# Altium footprint library Peak.PcbLib: 18 footprints (part 1 of 2)
Each footprint in its own frame and in the unit in brackets; x right, y up, seen from the top. Pads: shape width x height; smd on the part's side, far side on the other; paste and mask are expansions set on the pad; w line width, h text height; cw(c..) or ccw(c..) is an arc to the next point about the centre after c.
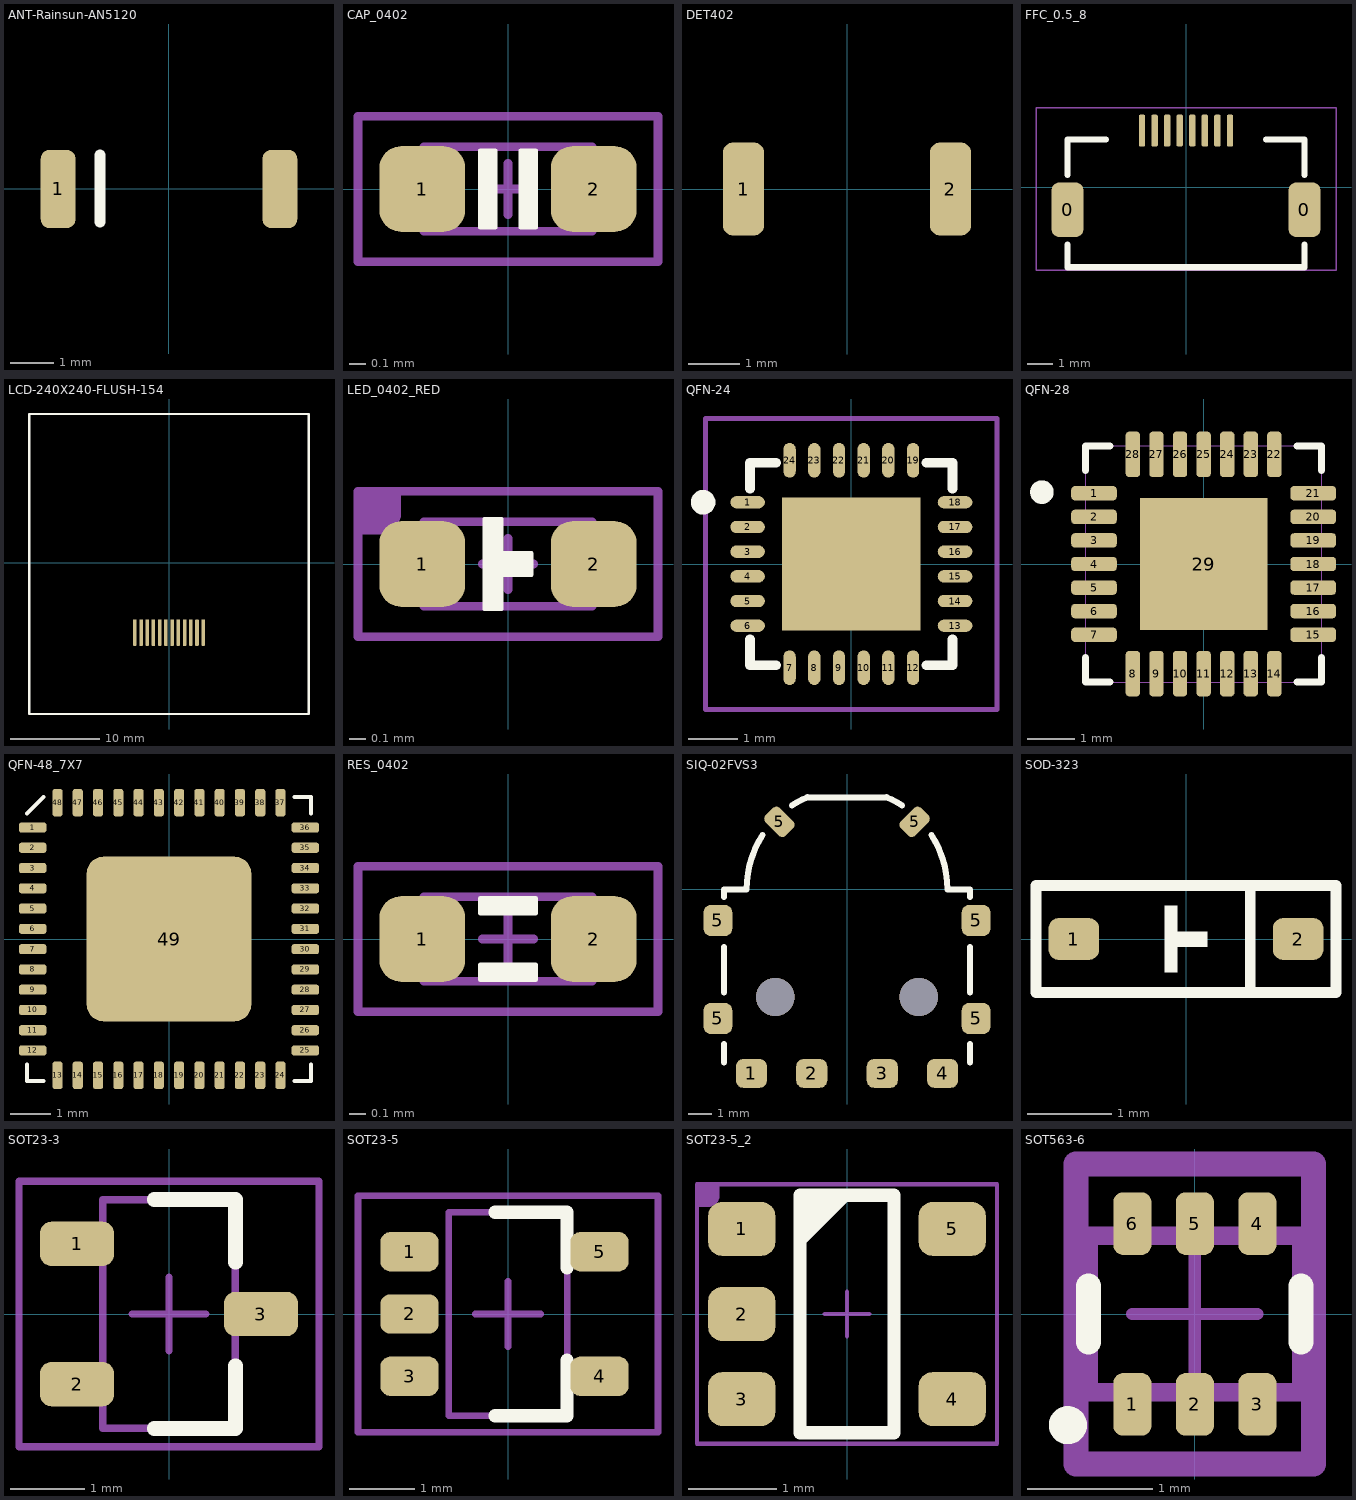
[diagram p0: the footprints below, top view; thin cyan lines are the x and y axes]

## ANT-Rainsun-AN5120 [mm] "选择焊盘"
height 4.3
pads (2):
  rrect50% 0.8x1.8 smd: 1(-2.54,0) ""(2.563,0)
Top Overlay:
  lines w0.254: -1.575,-0.762 -1.575,0.787
3D body "123.stp": height 1.32, standoff -0.01, extent -2.573,-0.911 2.542,0.935

## CAP_0402 [mil]
height 21.65
pads (2):
  rrect50% 20x20 smd: 1(-20,0) 2(20,0)
Top Overlay:
  region: 6.5,-9 3,-9 3,9 6.5,9
  region: -6.5,9 -3,9 -3,-9 -6.5,-9
  lines w1: -6.5,-9 -6.5,9 -3,9 -3,-9 -6.5,-9 ; 3,-9 6.5,-9 6.5,9 3,9 3,-9
Mechanical 13:
  lines w2: -6,0 6,0 ; 0,-6 0,6 ; -19.69,-9.84 19.68,-9.84 19.68,9.84 -19.69,9.84 -19.69,-9.84
Mechanical 14:
  lines w2: -35,-17 35,-17 35,17 -35,17 -35,-17
3D body "CAPC1005X05L.step": height 19.68, standoff 0, extent -19.68,-9.84 19.69,9.85

## DET402 [mm]
height 4.3
pads (2):
  rrect50% 0.8x1.8 smd: 1(-2,0) 2(2,0)
3D body "User Library-DET402.STEP": height 2.03, standoff -0.02, extent -2.451,-1.5 2.44,1.5

## FFC_0.5_8 [mil]
height 78.74
pads (10):
  rrect50% 50x86 smd: 0(-185.63,-35) 0(185.63,-35)
  rrect50% 10x50 smd: 1(-68.9,89) 2(-49.21,89) 3(-29.53,89) 4(-9.84,89) 5(9.84,89) 6(29.53,89) 7(49.21,89) 8(68.9,89)
Top Overlay:
  lines w10: -185.63,-125 -185.63,-90 ; -185.63,20 -185.63,75 -125.63,75 ; -185,-125 185,-125 ; 125.63,75 185.63,75 185.63,20 ; 185.63,-125 185.63,-90
Mechanical 14:
  lines w2: -235,-130 235,-130 235,125 -235,125 -235,-130
3D body "fpc.step": height 81.71, standoff -1.16, extent -187.01,-123.5 187.01,86.57

## LCD-240X240-FLUSH-154 [mm]
height 0.8
pads (12):
  rrect50% 0.4x3 smd: 1(3.851,-7.85) 2(3.151,-7.85) 3(2.451,-7.85) 4(1.751,-7.85) 5(1.051,-7.85) 6(0.351,-7.85) 7(-0.349,-7.85) 8(-1.049,-7.85) 9(-1.749,-7.85) 10(-2.449,-7.85) 11(-3.149,-7.85) 12(-3.849,-7.85)
Top Overlay:
  lines w0.254: -15.748,-17.018 15.748,-17.018 15.748,16.764 -15.748,16.764 -15.748,-17.018
3D body "1.54 TFT IPS - 12P - Flat Flush Mount.stp": height -0.37, standoff -1.9, extent -15.697,-17.018 15.697,16.764

## LED_0402_RED [mil]
height 31.5
pads (2):
  rrect50% 20x20 smd: 1(-20,0) 2(20,0)
Top Overlay:
  region: -5.5,10.5 -1.5,10.5 -1.5,2.5 5.5,2.5 5.5,-2.5 -1.5,-2.5 -1.5,-10.5 -5.5,-10.5
  lines w1: -5.5,-10.5 -5.5,10.5 -1.5,10.5 -1.5,2.5 5.5,2.5 5.5,-2.5 -1.5,-2.5 -1.5,-10.5 -5.5,-10.5
Mechanical 13:
  lines w2: -6,0 6,0 ; 0,-6 0,6 ; -19.69,-9.84 19.68,-9.84 19.68,9.84 -19.69,9.84 -19.69,-9.84
Mechanical 14:
  region: -35,17 -25,17 -25,12 -25,11.01 -25.76,9.17 -27.17,7.76 -29.01,7 -30,7 -35,7
  lines w2: -35,-17 35,-17 35,17 -35,17 -35,-17
  text ".Designator" at -15,-10 h40
3D body "User Library-led_0402LED0402 red_.STEP": height 17.72, standoff 0, extent -19.88,-9.84 19.89,9.84

## QFN-24 [mm] "QFN, 24-Leads, Body 4.1x4.1mm (max), Pitch 0.50mm, IPC Low Density"
height 0.95
pads (25):
  oval 0.7x0.25 smd: 1(-2.1,1.25) 2(-2.1,0.75) 3(-2.1,0.25) 4(-2.1,-0.25) 5(-2.1,-0.75) 6(-2.1,-1.25) 13(2.1,-1.25) 14(2.1,-0.75) 15(2.1,-0.25) 16(2.1,0.25) 17(2.1,0.75) 18(2.1,1.25)
  oval 0.25x0.7 smd: 7(-1.25,-2.1) 8(-0.75,-2.1) 9(-0.25,-2.1) 10(0.25,-2.1) 11(0.75,-2.1) 12(1.25,-2.1) 19(1.25,2.1) 20(0.75,2.1) 21(0.25,2.1) 22(-0.25,2.1) 23(-0.75,2.1) 24(-1.25,2.1)
  rect 2.8x2.7 smd: ""(0,0)
Top Overlay:
  circle w0.25: c-3,1.25 r0.125
  lines w0.2: -2.05,-1.525 -2.05,-2.05 -1.525,-2.05 ; -2.05,1.525 -2.05,2.05 -1.525,2.05 ; 1.525,-2.05 2.05,-2.05 2.05,-1.525 ; 1.525,2.05 2.05,2.05 2.05,1.525
Mechanical 15:
  lines w0.1: -0.5,0 0.5,0 ; 0,-0.5 0,0.5 ; -2.95,-2.95 -2.95,2.95 2.95,2.95 2.95,-2.95 -2.95,-2.95
3D body "User Library-mpu-6050_qfn-24.stp": height 0.95, standoff 0.05, extent -2.02,-2.02 2.02,2.02

## QFN-28 [mil]
height 169.29
pads (29):
  rrect50% 38x12 smd mask+5: 1(-91.5,59.06) 2(-91.5,39.37) 3(-91.5,19.68) 4(-91.5,0) 5(-91.5,-19.68) 6(-91.5,-39.37) 7(-91.5,-59.06) 15(91.5,-59.06) 16(91.5,-39.37) 17(91.5,-19.68) 18(91.5,0) 19(91.5,19.68) 20(91.5,39.37) 21(91.5,59.06)
  rrect50% 12x38 smd mask+5: 8(-59.06,-91.5) 9(-39.37,-91.5) 10(-19.68,-91.5) 11(0,-91.5) 12(19.68,-91.5) 13(39.37,-91.5) 14(59.06,-91.5) 22(59.06,91.5) 23(39.37,91.5) 24(19.68,91.5) 25(0,91.5) 26(-19.68,91.5) 27(-39.37,91.5) 28(-59.06,91.5)
  rect 106.3x110.24 smd: 29(0,0)
Top Overlay:
  circle w9.84: c-135,60 r4.92
  lines w6: -98.5,-78.16 -98.5,-98.5 -78.16,-98.5 ; -98.5,78.16 -98.5,98.5 -78.16,98.5 ; 78.16,-98.5 98.5,-98.5 98.5,-78.16 ; 78.16,98.5 98.5,98.5 98.5,78.16
Mechanical 1:
  lines w0: -98.5,-98.5 -98.5,98.5 98.5,98.5 98.5,-98.5 -98.5,-98.5 ; -98.5,-65.06 -98.5,-53.06 -98.5,-65.06 ; -98.5,-45.37 -98.5,-33.37 -98.5,-45.37 ; -98.5,-25.68 -98.5,-13.69 -98.5,-25.68 ; -98.5,-6 -98.5,6 -98.5,-6 ; -98.5,13.69 -98.5,25.68 -98.5,13.69 ; -98.5,33.37 -98.5,45.37 -98.5,33.37 ; -98.5,53.06 -98.5,65.06 -98.5,53.06 ; -65.06,-98.5 -53.06,-98.5 -65.06,-98.5 ; -65.06,98.5 -53.06,98.5 -65.06,98.5 ; -45.37,-98.5 -33.37,-98.5 -45.37,-98.5 ; -45.37,98.5 -33.37,98.5 -45.37,98.5 ; -25.68,-98.5 -13.69,-98.5 -25.68,-98.5 ; -25.68,98.5 -13.69,98.5 -25.68,98.5 ; -6,-98.5 6,-98.5 -6,-98.5 ; -6,98.5 6,98.5 -6,98.5 ; 13.69,-98.5 25.68,-98.5 13.69,-98.5 ; 13.69,98.5 25.68,98.5 13.69,98.5 ; 33.37,-98.5 45.37,-98.5 33.37,-98.5 ; 33.37,98.5 45.37,98.5 33.37,98.5 ; 53.06,-98.5 65.06,-98.5 53.06,-98.5 ; 53.06,98.5 65.06,98.5 53.06,98.5 ; 98.5,-65.06 98.5,-53.06 98.5,-65.06 ; 98.5,-45.37 98.5,-33.37 98.5,-45.37 ; 98.5,-25.68 98.5,-13.69 98.5,-25.68 ; 98.5,-6 98.5,6 98.5,-6 ; 98.5,13.69 98.5,25.68 98.5,13.69 ; 98.5,33.37 98.5,45.37 98.5,33.37 ; 98.5,53.06 98.5,65.06 98.5,53.06
3D body "321.stp": height 35.43, standoff 0, extent -98.5,-98.5 98.35,98.35

## QFN-48_7X7 [mm]
height 4.3
pads (49):
  rrect50% 0.675x0.25 smd: 1(-3.363,2.75) 2(-3.363,2.25) 3(-3.363,1.75) 4(-3.363,1.25) 5(-3.363,0.75) 6(-3.363,0.25) 7(-3.363,-0.25) 8(-3.363,-0.75) 9(-3.363,-1.25) 10(-3.363,-1.75) 11(-3.363,-2.25) 12(-3.363,-2.75) 25(3.363,-2.75) 26(3.363,-2.25) 27(3.363,-1.75) 28(3.363,-1.25) 29(3.363,-0.75) 30(3.363,-0.25) 31(3.363,0.25) 32(3.363,0.75) 33(3.363,1.25) 34(3.363,1.75) 35(3.363,2.25) 36(3.363,2.75)
  rrect50% 0.25x0.675 smd: 13(-2.75,-3.363) 14(-2.25,-3.363) 15(-1.75,-3.363) 16(-1.25,-3.363) 17(-0.75,-3.363) 18(-0.25,-3.363) 19(0.25,-3.363) 20(0.75,-3.363) 21(1.25,-3.363) 22(1.75,-3.363) 23(2.25,-3.363) 24(2.75,-3.363) 37(2.75,3.363) 38(2.25,3.363) 39(1.75,3.363) 40(1.25,3.363) 41(0.75,3.363) 42(0.25,3.363) 43(-0.25,3.363) 44(-0.75,3.363) 45(-1.25,3.363) 46(-1.75,3.363) 47(-2.25,3.363) 48(-2.75,3.363)
  rrect20% 4.064x4.064 smd: 49(0,0)
Top Overlay:
  lines w0.1: -3.5,-3.1 -3.5,-3.5 -3.1,-3.5 ; -3.5,3.1 -3.1,3.5 ; 3.1,-3.5 3.5,-3.5 3.5,-3.1 ; 3.1,3.5 3.5,3.5 3.5,3.1
3D body: height 1, standoff 0.05, extent -3.5,-3.5 3.5,3.5

## RES_0402 [mil]
height 13.78
pads (2):
  rrect50% 20x20 smd: 1(-20,0) 2(20,0)
Top Overlay:
  region: -6.5,9.5 6.5,9.5 6.5,6 -6.5,6
  region: 6.5,-9.5 -6.5,-9.5 -6.5,-6 6.5,-6
  lines w1: -6.5,-9.5 -6.5,-6 6.5,-6 6.5,-9.5 -6.5,-9.5 ; -6.5,6 6.5,6 6.5,9.5 -6.5,9.5 -6.5,6
Mechanical 13:
  lines w2: -6,0 6,0 ; 0,-6 0,6 ; -19.69,-9.84 19.68,-9.84 19.68,9.84 -19.69,9.84 -19.69,-9.84
Mechanical 14:
  lines w2: -35,-17 -35,17 35,17 35,-17 -35,-17
3D body "RESC1005X03L.step": height 13.78, standoff 0, extent -19.68,-9.84 19.69,9.85

## SIQ-02FVS3 [mm]
height 4.3
pads (10):
  rrect50% 1.3x1.2 smd: 1(-4,-7.7) 2(-1.475,-7.7) 3(1.475,-7.7) 4(4,-7.7)
  rrect50% 1.2x1.3 smd: 5(-5.4,-5.4) 5(-5.4,-1.3) 5(5.4,-5.4) 5(5.4,-1.3)
  rrect50% 0.85x1.2 smd rot 45: 5(-2.828,2.828)
  rrect50% 0.85x1.2 smd rot 135: 5(2.828,2.828)
via 3,-4.5 diameter 1.6 hole 1.6
via -3,-4.5 diameter 1.6 hole 1.6
Top Overlay:
  lines w0.254: -5.15,-7.25 -5.15,-6.477 ; -5.15,-4.318 -5.15,-2.402 ; -5.15,-0.324 -5.15,0 -4.2,0 cw(c0,0) -3.533,2.271 ; -2.298,3.515 cw(c0,0) -1.655,3.86 ; -1.655,3.85 1.655,3.85 ; 1.655,3.86 cw(c0,0) 2.298,3.515 ; 3.533,2.271 cw(c0,0) 4.2,0 5.15,0 5.15,-0.324 ; 5.15,-7.25 5.15,-6.477 ; 5.15,-4.318 5.15,-2.402
3D body "RE.step": height 4.06, standoff -0.44, extent -7.199,-7.5 7.199,7.25

## SOD-323 [mm]
height 4.3
pads (2):
  rrect50% 0.6x0.5 smd: 1(-1.329,0) 2(1.329,0)
Top Overlay:
  region: -0.254,0.394 -0.102,0.394 -0.102,0.089 0.254,0.089 0.254,-0.089 -0.102,-0.089 -0.102,-0.394 -0.254,-0.394
  lines w0.127: 0.762,-0.635 0.762,0.635 ; -1.778,-0.635 -1.778,0.635 1.778,0.635 1.778,-0.635 -1.778,-0.635
3D body "SW3dPS-SOD-323.STEP": height 1.15, standoff 0.05, extent -1.3,-0.675 1.3,0.675

## SOT23-3 [mm] "SOT23, 3-Leads, Body 3.1x3.0mm (max), Pitch 0.95mm, IPC Medium Density"
height 1.2
pads (3):
  rrect50% 1x0.6 smd: 1(-1.246,0.95) 2(-1.246,-0.95) 3(1.246,0)
Top Overlay:
  lines w0.2: -0.2,-1.55 0.9,-1.55 0.9,-0.7 ; -0.2,1.55 0.9,1.55 0.9,0.7
Mechanical 13:
  lines w0.1: -0.9,-1.55 0.9,-1.55 0.9,1.55 -0.9,1.55 -0.9,-1.55
Mechanical 15:
  lines w0.1: -0.5,0 0.5,0 ; 0,-0.5 0,0.5 ; -2.032,-1.8 2.032,-1.8 2.032,1.8 -2.032,1.8 -2.032,-1.8
3D body "SOT-23-3.stp": height 1.2, standoff 0, extent -1.298,-1.45 1.502,1.45

## SOT23-5 [mm] "SOT23, 3-Leads, Body 3.1x3.0mm (max), Pitch 0.95mm, IPC Medium Density"
height 1.2
pads (5):
  rrect50% 0.889x0.6 smd: 1(-1.5,0.95) 2(-1.5,0) 3(-1.5,-0.95) 4(1.396,-0.95) 5(1.396,0.95)
Top Overlay:
  lines w0.2: -0.2,-1.55 0.9,-1.55 0.9,-0.7 ; -0.2,1.55 0.9,1.55 0.9,0.7
Mechanical 13:
  lines w0.1: -0.9,-1.55 -0.9,1.55 0.9,1.55 0.9,-1.55 -0.9,-1.55
Mechanical 15:
  lines w0.1: -0.5,0 0.5,0 ; 0,-0.5 0,0.5 ; -2.286,-1.8 -2.286,1.8 2.286,1.8 2.286,-1.8 -2.286,-1.8
3D body "PCB1.stp": height 1.2, standoff 0, extent -1.476,-1.452 1.324,1.448

## SOT23-5_2 [mil]
pads (5):
  rrect50% 30x24 smd: 1(-47,38) 2(-47,0) 3(-47,-38) 4(47,-38) 5(47,38)
Top Overlay:
  region: -21,53 3,53 -21,29
  lines w6: -21,-53 -21,53 21,53 21,-53 -21,-53
Mechanical 13:
  lines w2: -10,0 10,0 ; 0,-10 0,10
Mechanical 14:
  region: -67,58 -57,58 -57,53 -57,52.01 -57.76,50.17 -59.17,48.76 -61.01,48 -62,48 -67,48
  lines w2: -67,-58 67,-58 67,58 -67,58 -67,-58
3D body "User Library-SOT23-5-2.STEP": height 57.09, standoff 0, extent -55.11,-57.09 55.12,57.09

## SOT563-6 [mm]
height 4.3
pads (6):
  rrect50% 0.305x0.5 smd paste+0 mask+0: 1(-0.5,-0.723) 2(0,-0.723) 3(0.5,-0.723) 4(0.5,0.723) 5(0,0.723) 6(-0.5,0.723)
Top Overlay:
  circle w0.152: c-1.016,-0.889 r0.076
  lines w0.2: -0.85,-0.225 -0.85,0.225 ; 0.85,-0.225 0.85,0.225
Mechanical 10:
  lines w0.2: -0.95,-1.2 -0.95,1.2 0.95,1.2 0.95,-1.2 -0.95,-1.2
Mechanical 12:
  lines w0.15: -0.85,-0.625 -0.85,0.625 0.85,0.625 0.85,-0.625 -0.85,-0.625
Mechanical 15:
  lines w0.1: -0.5,0 0.5,0 ; 0,-0.5 0,0.5
  lines w0.2: -0.95,-1.2 -0.95,1.2 0.95,1.2 0.95,-1.2 -0.95,-1.2
3D body "Trans_Diodes_BC847BVC-7_eec.STEP": height 0.6, standoff 0, extent -0.8,-0.8 0.8,0.8